# Altium footprint library SMD_C0402.PcbLib: 1 footprints
Each footprint in its own frame and in the unit in brackets; x right, y up, seen from the top. Pads: shape width x height; smd on the part's side, far side on the other; paste and mask are expansions set on the pad; w line width, h text height; cw(c..) or ccw(c..) is an arc to the next point about the centre after c.
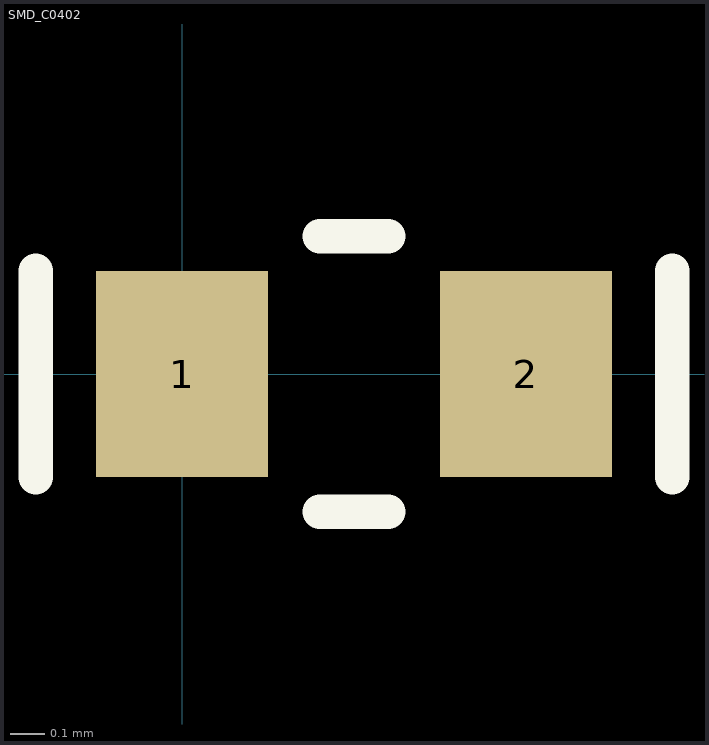
[diagram p0: the footprint, top view; thin cyan lines are the x and y axes]

## SMD_C0402 [mm]
pads (2):
  rect 0.5x0.6 smd: 1(0,0) 2(1,0)
Top Overlay:
  lines w0.1: -0.425,-0.3 -0.425,0.3 ; 0.4,-0.4 0.6,-0.4 ; 0.4,0.4 0.6,0.4 ; 1.425,-0.3 1.425,0.3
3D body "SMD_C0402.STEP": height 0.7, standoff 0, extent -0.1,-0.35 1.1,0.35